# EAGLE library part SD-CARD (library X893)
Micro SD card holder
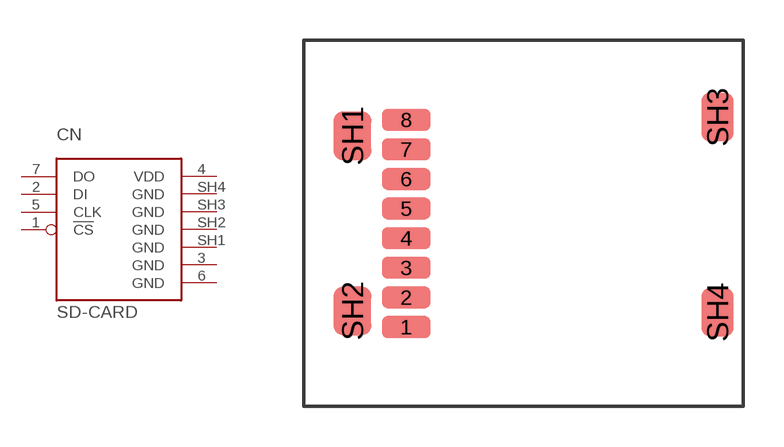
[diagram p10: symbol with the pads of ST1W008S4AR1500; footprint ST1W008S4AR1500]

Designator prefix CN

## SD-CARD-ST1W008S4AR1500  [ST1W008S4AR1500]
1  !CS  in
2  DI  in
3  GND  pwr
4  VDD  pas
5  CLK  in
6  GND  pwr
7  DO  hiz
SH1  GND  pwr
SH2  GND  pwr
SH3  GND  pwr
SH4  GND  pwr

## Footprint ST1W008S4AR1500 (pad centres in mm)
smd 1.8 x 0.8: 1 -4,-3.85; 2 -4,-2.75; 3 -4,-1.65; 4 -4,-0.55; 5 -4,0.55; 6 -4,1.65; 7 -4,2.75; 8 -4,3.85
smd 1.4 x 1.8: SH1 -6,3.25; SH2 -6,-3.25
smd 1.2 x 1.8: SH3 7.55,3.95; SH4 7.55,-3.3